# Altium schematic symbol library LPC2468.SchLib: 1 symbol
Pins are listed as number, name and electrical type; pins without a type are passive.

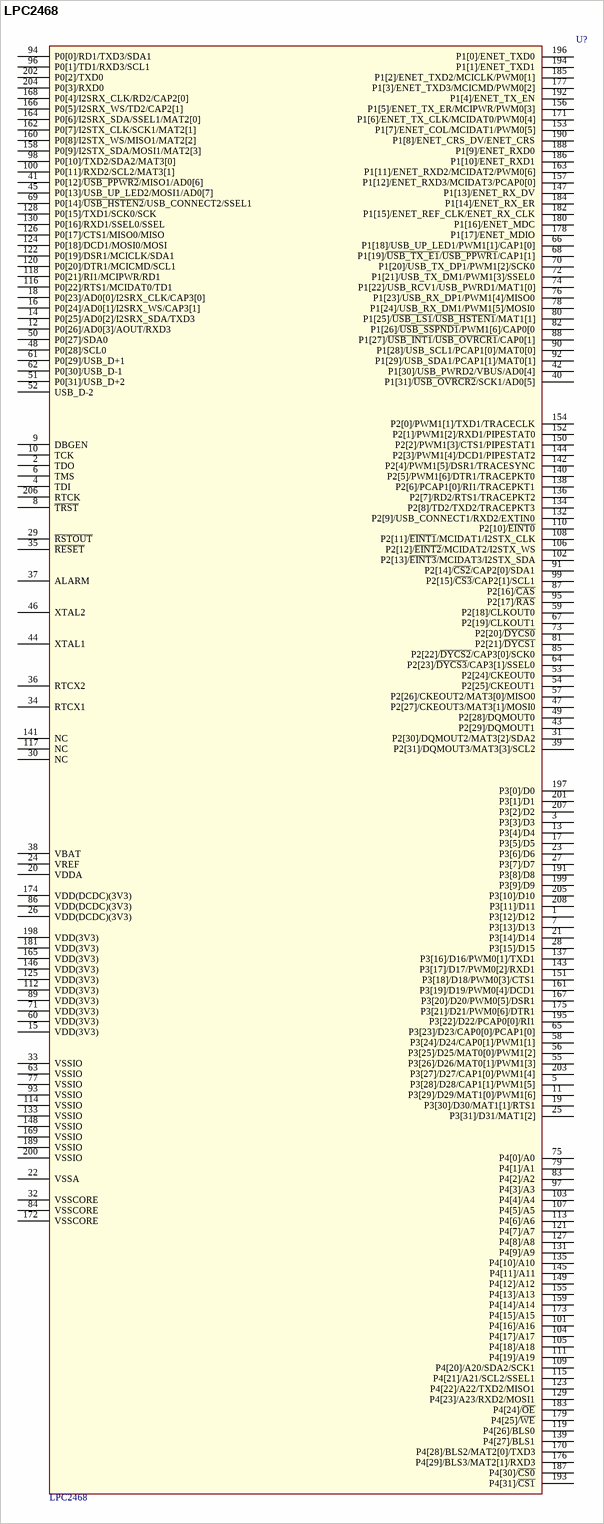
[diagram p0: symbol LPC2468]

## LPC2468
designator U?  value LPC2468  (hidden comment: *)
Farnell Code: 1524647
footprint LQFP-208 (Footprint not found)
pins: 1 P3[12]/D12, 2 TDO, 3 P3[3]/D3, 4 TDI, 5 P3[28]/D28/CAP1[1]/PWM1[5], 6 TMS, 7 P3[13]/D13, 8 ~{TRST}, 9 DBGEN, 10 TCK, 11 P3[29]/D29/MAT1[0]/PWM1[6], 12 P0[26]/AD0[3]/AOUT/RXD3, 13 P3[4]/D4, 14 P0[25]/AD0[2]/I2SRX_SDA/TXD3, 15 VDD(3V3), 16 P0[24]/AD0[1]/I2SRX_WS/CAP3[1], 17 P3[5]/D5, 18 P0[23]/AD0[0]/I2SRX_CLK/CAP3[0], 19 P3[30]/D30/MAT1[1]/RTS1, 20 VDDA, 21 P3[14]/D14, 22 VSSA, 23 P3[6]/D6, 24 VREF, 25 P3[31]/D31/MAT1[2], 26 VDD(DCDC)(3V3), 27 P3[7]/D7, 28 P3[15]/D15, 29 ~{RSTOUT}, 30 NC, 31 P2[30]/DQMOUT2/MAT3[2]/SDA2, 32 VSSCORE, 33 VSSIO, 34 RTCX1, 35 ~{RESET}, 36 RTCX2, 37 ALARM, 38 VBAT, 39 P2[31]/DQMOUT3/MAT3[3]/SCL2, 40 P1[31]/~{USB_OVRCR2}/SCK1/AD0[5], 41 P0[12]/~{USB_PPWR2}/MISO1/AD0[6], 42 P1[30]/USB_PWRD2/VBUS/AD0[4], 43 P2[29]/DQMOUT1, 44 XTAL1, 45 P0[13]/USB_UP_LED2/MOSI1/AD0[7], 46 XTAL2, 47 P2[27]/CKEOUT3/MAT3[1]/MOSI0, 48 P0[28]/SCL0, 49 P2[28]/DQMOUT0, 50 P0[27]/SDA0, 51 P0[31]/USB_D+2, 52 USB_D-2, 53 P2[24]/CKEOUT0, 54 P2[25]/CKEOUT1, 55 P3[26]/D26/MAT0[1]/PWM1[3], 56 P3[25]/D25/MAT0[0]/PWM1[2], 57 P2[26]/CKEOUT2/MAT3[0]/MISO0, 58 P3[24]/D24/CAP0[1]/PWM1[1], 59 P2[18]/CLKOUT0, 60 VDD(3V3), 61 P0[29]/USB_D+1, 62 P0[30]/USB_D-1, 63 VSSIO, 64 P2[23]/~{DYCS3}/CAP3[1]/SSEL0, 65 P3[23]/D23/CAP0[0]/PCAP1[0], 66 P1[18]/USB_UP_LED1/PWM1[1]/CAP1[0], 67 P2[19]/CLKOUT1, 68 P1[19]/~{USB_TX_E1}/~{USB_PPWR1}/CAP1[1], 69 P0[14]/~{USB_HSTEN2}/USB_CONNECT2/SSEL1, 70 P1[20]/USB_TX_DP1/PWM1[2]/SCK0, 71 VDD(3V3), 72 P1[21]/USB_TX_DM1/PWM1[3]/SSEL0, 73 P2[20]/~{DYCS0}, 74 P1[22]/USB_RCV1/USB_PWRD1/MAT1[0], 75 P4[0]/A0, 76 P1[23]/USB_RX_DP1/PWM1[4]/MISO0, 77 VSSIO, 78 P1[24]/USB_RX_DM1/PWM1[5]/MOSI0, 79 P4[1]/A1, 80 P1[25]/~{USB_LS1}/~{USB_HSTEN1}/MAT1[1], 81 P2[21]/~{DYCS1}, 82 P1[26]/~{USB_SSPND1}/PWM1[6]/CAP0[0, 83 P4[2]/A2, 84 VSSCORE, 85 P2[22]/~{DYCS2}/CAP3[0]/SCK0, 86 VDD(DCDC)(3V3), 87 P2[16]/~{CAS}, 88 P1[27]/~{USB_INT1}/~{USB_OVRCR1}/CAP0[1], 89 VDD(3V3), 90 P1[28]/USB_SCL1/PCAP1[0]/MAT0[0], 91 P2[14]/~{CS2}/CAP2[0]/SDA1, 92 P1[29]/USB_SDA1/PCAP1[1]/MAT0[1], 93 VSSIO, 94 P0[0]/RD1/TXD3/SDA1, 95 P2[17]/~{RAS}, 96 P0[1]/TD1/RXD3/SCL1, 97 P4[3]/A3, 98 P0[10]/TXD2/SDA2/MAT3[0], 99 P2[15]/~{CS3}/CAP2[1]/SCL1, 100 P0[11]/RXD2/SCL2/MAT3[1], 101 P4[16]/A16, 102 P2[13]/~{EINT3}/MCIDAT3/I2STX_SDA, 103 P4[4]/A4, 104 P4[17]/A17, 105 P4[18]/A18, 106 P2[12]/~{EINT2}/MCIDAT2/I2STX_WS, 107 P4[5]/A5, 108 P2[11]/~{EINT1}/MCIDAT1/I2STX_CLK, 109 P4[20]/A20/SDA2/SCK1, 110 P2[10]/~{EINT0}, 111 P4[19]/A19, 112 VDD(3V3), 113 P4[6]/A6, 114 VSSIO, 115 P4[21]/A21/SCL2/SSEL1, 116 P0[22]/RTS1/MCIDAT0/TD1, 117 NC, 118 P0[21]/RI1/MCIPWR/RD1, 119 P4[26]/BLS0, 120 P0[20]/DTR1/MCICMD/SCL1, 121 P4[7]/A7, 122 P0[19]/DSR1/MCICLK/SDA1, 123 P4[22]/A22/TXD2/MISO1, 124 P0[18]/DCD1/MOSI0/MOSI, 125 VDD(3V3), 126 P0[17]/CTS1/MISO0/MISO, 127 P4[8]/A8, 128 P0[15]/TXD1/SCK0/SCK, 129 P4[23]/A23/RXD2/MOSI1, 130 P0[16]/RXD1/SSEL0/SSEL, 131 P4[9]/A9, 132 P2[9]/USB_CONNECT1/RXD2/EXTIN0, 133 VSSIO, 134 P2[8]/TD2/TXD2/TRACEPKT3, 135 P4[10]/A10, 136 P2[7]/RD2/RTS1/TRACEPKT2, 137 P3[16]/D16/PWM0[1]/TXD1, 138 P2[6]/PCAP1[0]/RI1/TRACEPKT1, 139 P4[27]/BLS1, 140 P2[5]/PWM1[6]/DTR1/TRACEPKT0, 141 NC, 142 P2[4]/PWM1[5]/DSR1/TRACESYNC, 143 P3[17]/D17/PWM0[2]/RXD1, 144 P2[3]/PWM1[4]/DCD1/PIPESTAT2, 145 P4[11]/A11, 146 VDD(3V3), 147 P1[13]/ENET_RX_DV, 148 VSSIO, 149 P4[12]/A12, 150 P2[2]/PWM1[3]/CTS1/PIPESTAT1, 151 P3[18]/D18/PWM0[3]/CTS1, 152 P2[1]/PWM1[2]/RXD1/PIPESTAT0, 153 P1[7]/ENET_COL/MCIDAT1/PWM0[5], 154 P2[0]/PWM1[1]/TXD1/TRACECLK, 155 P4[13]/A13, 156 P1[5]/ENET_TX_ER/MCIPWR/PWM0[3], 157 P1[12]/ENET_RXD3/MCIDAT3/PCAP0[0], 158 P0[9]/I2STX_SDA/MOSI1/MAT2[3], 159 P4[14]/A14, 160 P0[8]/I2STX_WS/MISO1/MAT2[2], 161 P3[19]/D19/PWM0[4]/DCD1, 162 P0[7]/I2STX_CLK/SCK1/MAT2[1], 163 P1[11]/ENET_RXD2/MCIDAT2/PWM0[6], 164 P0[6]/I2SRX_SDA/SSEL1/MAT2[0], 165 VDD(3V3), 166 P0[5]/I2SRX_WS/TD2/CAP2[1], 167 P3[20]/D20/PWM0[5]/DSR1, 168 P0[4]/I2SRX_CLK/RD2/CAP2[0], 169 VSSIO, 170 P4[28]/BLS2/MAT2[0]/TXD3, 171 P1[6]/ENET_TX_CLK/MCIDAT0/PWM0[4], 172 VSSCORE, 173 P4[15]/A15, 174 VDD(DCDC)(3V3), 175 P3[21]/D21/PWM0[6]/DTR1, 176 P4[29]/BLS3/MAT2[1]/RXD3, 177 P1[3]/ENET_TXD3/MCICMD/PWM0[2], 178 P1[17]/ENET_MDIO, 179 P4[25]/~{WE}, 180 P1[16]/ENET_MDC, 181 VDD(3V3), 182 P1[15]/ENET_REF_CLK/ENET_RX_CLK, 183 P4[24]/~{OE}, 184 P1[14]/ENET_RX_ER, 185 P1[2]/ENET_TXD2/MCICLK/PWM0[1], 186 P1[10]/ENET_RXD1, 187 P4[30]/~{CS0}, 188 P1[9]/ENET_RXD0, 189 VSSIO, 190 P1[8]/ENET_CRS_DV/ENET_CRS, 191 P3[8]/D8, 192 P1[4]/ENET_TX_EN, 193 P4[31]/~{CS1}, 194 P1[1]/ENET_TXD1, 195 P3[22]/D22/PCAP0[0]/RI1, 196 P1[0]/ENET_TXD0, 197 P3[0]/D0, 198 VDD(3V3), 199 P3[9]/D9, 200 VSSIO, 201 P3[1]/D1, 202 P0[2]/TXD0, 203 P3[27]/D27/CAP1[0]/PWM1[4], 204 P0[3]/RXD0, 205 P3[10]/D10, 206 RTCK, 207 P3[2]/D2, 208 P3[11]/D11